# Altium schematic symbol library ZYX.SchLib: 6 symbols
Pins are listed as number, name and electrical type; pins without a type are passive.

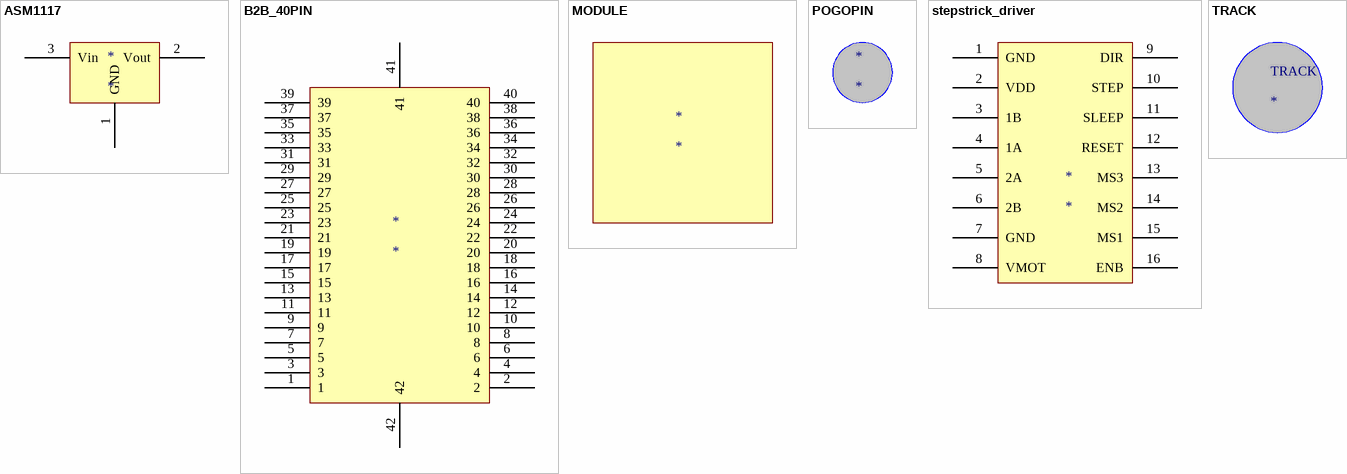
[diagram p0: symbols ASM1117 to TRACK]

## ASM1117
designator *
footprint SOT223 (SOT223, 4-Leads, Body 6.50x7.00mm (avg), Pitch 2.29mm, IPC Medium Density)
pins: 1 GND, 2 Vout, 3 Vin

## B2B_40PIN
designator *
footprint Model Name (Footprint not found)
footprint B2B_40pin
pins: 1, 2, 3, 4, 5, 6, 7, 8, 9, 10, 11, 12, 13, 14, 15, 16, 17, 18, 19, 20, 21, 22, 23, 24, 25, 26, 27, 28, 29, 30, 31, 32, 33, 34, 35, 36, 37, 38, 39, 40, 41, 42

## MODULE
designator *

## POGOPIN
designator *
footprint POGPPIN_FIANL

## stepstrick_driver
designator *
footprint A4988
pins: 1 GND, 2 VDD, 3 1B, 4 1A, 5 2A, 6 2B, 7 GND, 8 VMOT, 9 DIR, 10 STEP, 11 SLEEP, 12 RESET, 13 MS3, 14 MS2, 15 MS1, 16 ENB

## TRACK
designator TRACK
footprint TRACK4 - FINAL